# Altium footprint library Transistor.PcbLib: 13 footprints
Each footprint in its own frame and in the unit in brackets; x right, y up, seen from the top. Pads: shape width x height; smd on the part's side, far side on the other; paste and mask are expansions set on the pad; w line width, h text height; cw(c..) or ccw(c..) is an arc to the next point about the centre after c.
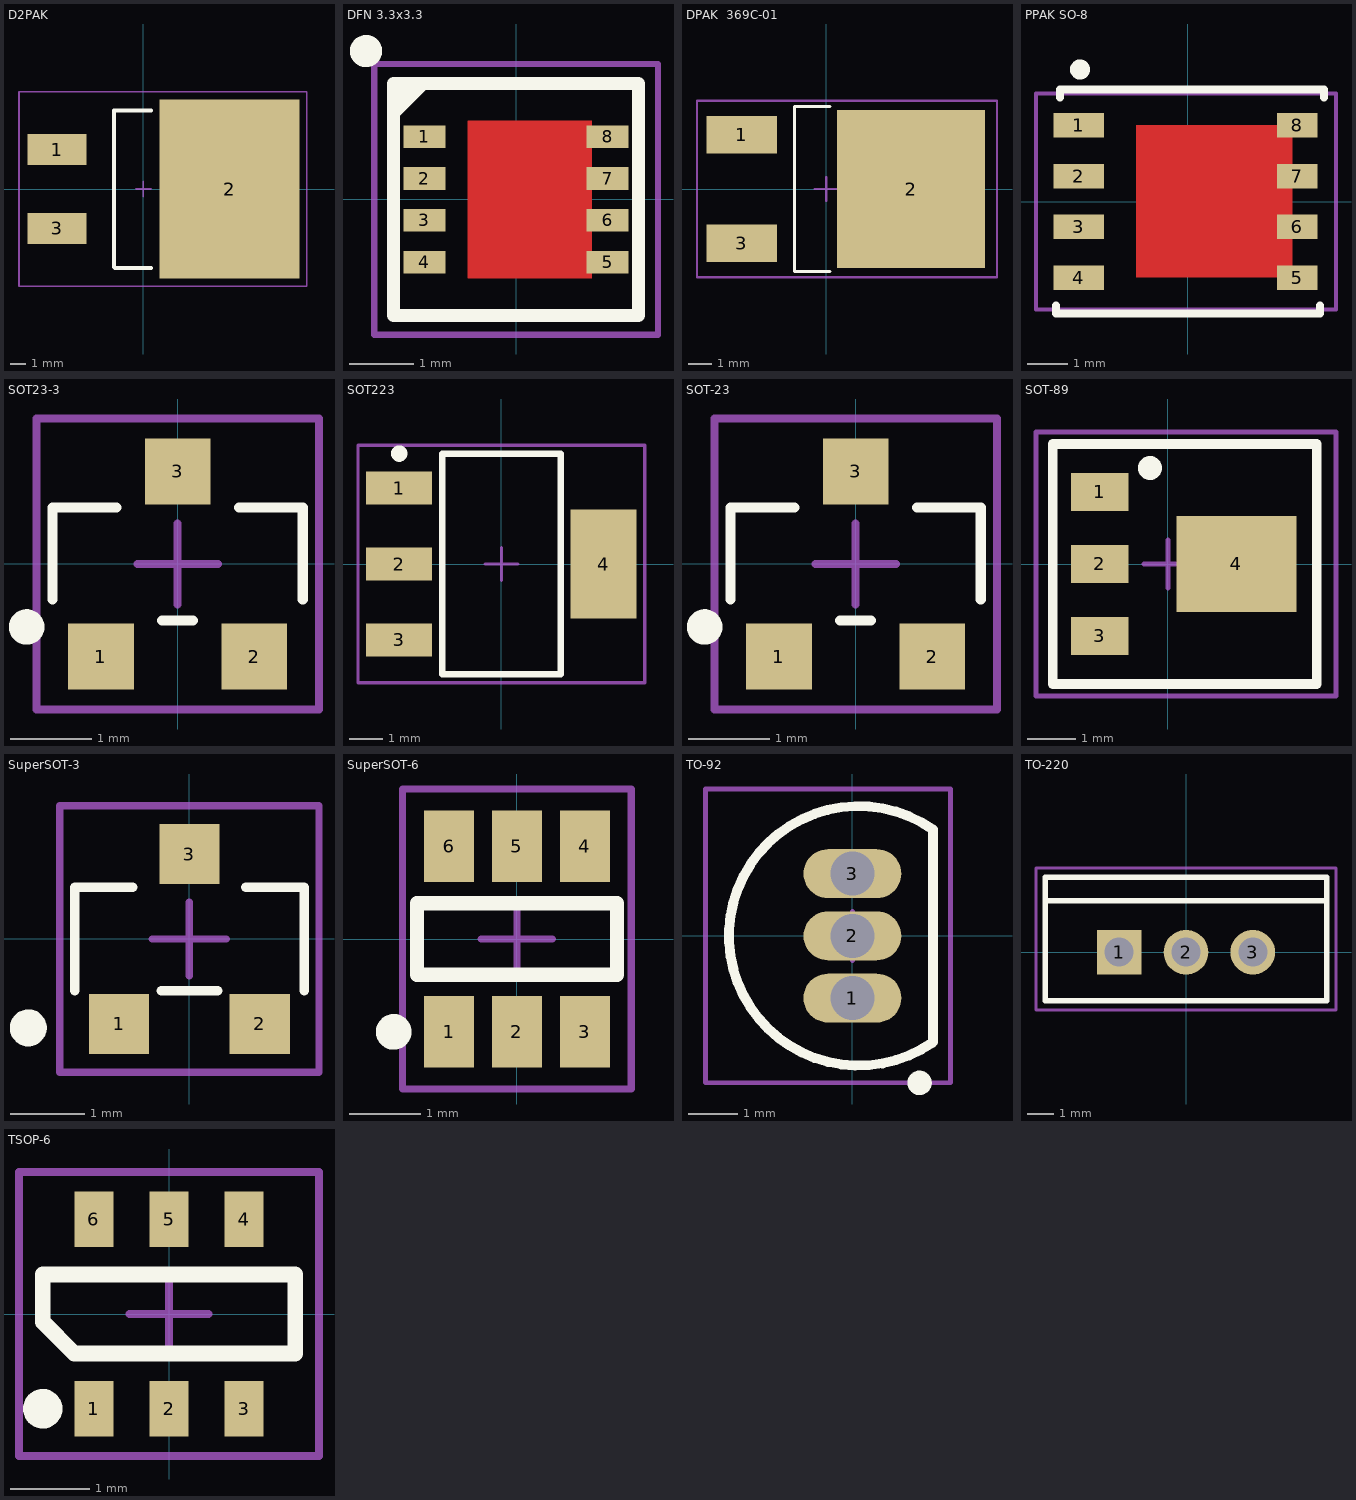
[diagram p0: the footprints below, top view; thin cyan lines are the x and y axes]

## D2PAK [mm]
pads (3):
  rect 3.8x2 smd paste+0: 1(-5.55,2.54) 3(-5.55,-2.54)
  rect 9x11.5 smd paste+0: 2(5.55,0)
Top Overlay:
  lines w0.254: 0.508,-5.08 -1.829,-5.08 -1.88,-5.029 -1.88,5.055 0.508,5.055
Mechanical 15:
  lines w0.1: -0.5,0 0.5,0 ; 0,-0.5 0,0.5 ; -8,-6.25 -8,6.25 10.5,6.25 10.5,-6.25 -8,-6.25
3D body "D2PAK.step": height 4.98, standoff -0.03, extent -6.971,-5.08 8.292,5.08

## DFN 3.3x3.3 [mm]
height 1.7
pads (8):
  rect 0.65x0.35 smd: 1(-1.42,0.975) 2(-1.42,0.325) 3(-1.42,-0.325) 4(-1.42,-0.975) 5(1.42,-0.975) 6(1.42,-0.325) 7(1.42,0.325) 8(1.42,0.975)
Top Layer:
  region: 1.18,-1.225 1.18,1.225 -0.75,1.225 -0.75,-1.225
Top Overlay:
  circle w0.25: c-2.325,2.3 r0.125
  region: -1.9,1.8 -1.3,1.8 -1.9,1.2
  lines w0.2: -1.9,-1.8 -1.9,1.8 1.9,1.8 1.9,-1.8 -1.9,-1.8
Top Solder:
  region: 1.28,-1.325 1.28,1.325 -0.82,1.325 -0.82,-1.325
Mechanical 15:
  lines w0.1: -0.5,0 0.5,0 ; 0,-0.5 0,0.5 ; -2.2,-2.1 2.2,-2.1 2.2,2.1 -2.2,2.1 -2.2,-2.1
3D body "DFN 3.3x3.3.STEP": height 0.75, standoff 0, extent -1.66,-1.65 1.66,1.65

## DPAK  369C-01 [mm]
pads (3):
  rect 3x1.6 smd paste+0: 1(-3.6,2.3) 3(-3.6,-2.3)
  rect 6.3x6.7 smd paste+0: 2(3.6,0)
Top Overlay:
  lines w0.127: 0.15,-3.5 -1.35,-3.5 -1.35,3.5 0.15,3.5
Mechanical 15:
  lines w0.1: -0.5,0 0.5,0 ; 0,-0.5 0,0.5 ; -5.5,-3.75 7.25,-3.75 7.25,3.75 -5.5,3.75 -5.5,-3.75
3D body "User Library-SO-369A-13.stp": height 2.4, standoff 0, extent -4.3,-3.3 5.8,3.3

## PPAK SO-8 [mm]
height 1
pads (8):
  rect 1.27x0.61 smd: 1(-2.732,1.905) 2(-2.732,0.635) 3(-2.732,-0.635) 4(-2.732,-1.905)
  rect 1.02x0.61 smd: 5(2.733,-1.905) 6(2.733,-0.635) 7(2.733,0.635) 8(2.733,1.905)
Top Layer:
  region: 2.61,-1.9 2.61,1.91 -1.3,1.91 -1.3,-1.9
Top Overlay:
  circle w0.25: c-2.7,3.3 r0.125
  lines w0.2: -3.3,-2.6 -3.3,-2.8 3.3,-2.8 3.3,-2.6 ; -3.2,2.6 -3.2,2.8 3.4,2.8 3.4,2.6
Top Solder:
  region: 2.7,-2.027 2.7,2.037 -1.427,2.037 -1.427,-2.027
Mechanical 15:
  lines w0.1: -0.5,-0.635 0.5,-0.635 ; 0,-1.135 0,-0.135 ; -3.8,-2.7 3.7,-2.7 3.7,2.7 -3.8,2.7 -3.8,-2.7
3D body "User Library-PowerPAK_SO8_single.STEP": height 1.11, standoff -0.01, extent -3.12,-2.625 3.12,2.625

## SOT23-3 [mil]
pads (3):
  rect 32x32 smd: 1(-37.4,-45.1) 2(37.4,-45.1) 3(0,45.1)
Top Overlay:
  circle w9.84: c-73.62,-30.71 r3.74
  lines w5: -61,-17.32 -61,27.6 -30,27.6 ; -7.48,-27.56 7.48,-27.56 ; 30,27.6 61,27.6 61,-17.32
Mechanical 15:
  lines w3.94: -19.68,0 19.68,0 ; 0,-19.69 0,19.68 ; -68.9,-70.87 -68.9,70.87 68.9,70.87 68.9,-70.87 -68.9,-70.87
3D body "SW3DPS-SOT-23-DEFAULT.step": height 42.91, standoff -0.39, extent -59.06,-49.21 59.06,49.21

## SOT223 [mm] "SOT223, 4-Leads, Body 6.5x3.5mm, Pitch 2.3mm, Lead Span 7mm, IPC Medium Density"
height 1.8
pads (4):
  rect 2x1 smd: 1(-3.1,2.3) 2(-3.1,0) 3(-3.1,-2.3)
  rect 2x3.3 smd: 4(3.1,0)
Top Overlay:
  circle w0.25: c-3.1,3.35 r0.125
  lines w0.2: -1.8,-3.35 1.8,-3.35 1.8,3.35 -1.8,3.35 -1.8,-3.35
Mechanical 13:
  lines w0.1: -1.85,-3.35 1.85,-3.35 1.85,3.35 -1.85,3.35 -1.85,-3.35
Mechanical 15:
  lines w0.1: -0.5,0 0.5,0 ; 0,-0.5 0,0.5 ; -4.35,-3.6 4.35,-3.6 4.35,3.6 -4.35,3.6 -4.35,-3.6
3D body "SOT-223.STEP": height 1.85, standoff -0.05, extent -3.674,-3.398 3.53,3.302

## SOT-23 [mil]
pads (3):
  rect 32x32 smd: 1(-37.4,-45.1) 2(37.4,-45.1) 3(0,45.1)
Top Overlay:
  circle w9.84: c-73.62,-30.71 r3.74
  lines w5: -61,-17.32 -61,27.6 -30,27.6 ; -7.48,-27.56 7.48,-27.56 ; 30,27.6 61,27.6 61,-17.32
Mechanical 15:
  lines w3.94: -19.68,0 19.68,0 ; 0,-19.69 0,19.68 ; -68.9,-70.87 68.9,-70.87 68.9,70.87 -68.9,70.87 -68.9,-70.87
3D body "SW3DPS-SOT-23-DEFAULT.step": height 42.91, standoff -0.39, extent -59.06,-49.21 59.06,49.21

## SOT-89 [mm]
height 1.5
pads (4):
  rect 1.2x0.8 smd: 1(-1.425,1.5) 2(-1.425,0) 3(-1.425,-1.5)
  rect 2.5x2 smd: 4(1.425,0)
Top Overlay:
  circle w0.25: c-0.375,2 r0.125
  lines w0.2: -2.4,-2.5 3.1,-2.5 3.1,2.5 -2.4,2.5 -2.4,-2.5
Mechanical 15:
  lines w0.1: -0.5,0 0.5,0 ; 0,-0.5 0,0.5 ; -2.75,-2.75 3.5,-2.75 3.5,2.75 -2.75,2.75 -2.75,-2.75
3D body "SOT-89.step": height 1.51, standoff 0, extent -1.9,-2.25 2.4,2.25

## SuperSOT-3 [mil]
height 44.09
pads (3):
  rect 32x32 smd: 1(-37.4,-45.1) 2(37.4,-45.1) 3(0,45.1)
Top Overlay:
  circle w9.84: c-85.63,-47.24 r4.92
  lines w5: -61,-27.5 -61,27.6 -30,27.6 ; -15,-27.5 15,-27.5 ; 30,27.6 61,27.6 61,-27.5
Mechanical 15:
  lines w3.94: -19.68,0 19.68,0 ; 0,-19.69 0,19.68 ; -68.9,-70.87 -68.9,70.87 68.9,70.87 68.9,-70.87 -68.9,-70.87
3D body "SW3DPS-SOT-23-DEFAULT.step": height 42.91, standoff -0.39, extent -59.06,-49.22 59.05,49.21

## SuperSOT-6 [mm]
height 1.1
pads (6):
  rect 0.7x1 smd: 1(-0.95,-1.3) 2(0,-1.3) 3(0.95,-1.3) 4(0.95,1.3) 5(0,1.3) 6(-0.95,1.3)
Top Overlay:
  circle w0.25: c-1.725,-1.3 r0.125
  lines w0.2: -1.4,-0.5 1.4,-0.5 1.4,0.5 -1.4,0.5 -1.4,-0.5
Mechanical 15:
  lines w0.1: -0.5,0 0.5,0 ; 0,-0.5 0,0.5 ; -1.6,-2.1 -1.6,2.1 1.6,2.1 1.6,-2.1 -1.6,-2.1
3D body "User Library-SSOT-6.STEP": height 1.05, standoff 0, extent -1.5,-1.5 1.5,1.5

## TO-92 [mm]
pads (3):
  oval 2x1 hole 0.9: 1(0,-1.27) 2(0,0) 3(0,1.27)
Top Overlay:
  circle w0.25: c1.371,-3.003 r0.125
  lines w0.2: 1.647,-2.171 cw(c0.127,0) 1.647,2.171 1.647,-2.171
Mechanical 15:
  lines w0.1: -0.5,0 0.5,0 ; 0,-0.5 0,0.5 ; -3,-3 -3,3 2,3 2,-3 -3,-3
3D body "TO-92.STEP": height 5.55, standoff -3.15, extent -2.413,-2.397 1.587,2.397

## TO-220 [mm] "TO, Thru-Hole, Vertical, Heatsink Mounted; 3 In-Line Leads; Pitch 2.54 mm"
height 22.9
pads (3):
  rect 1.7x1.7 hole 1.1: 1(-2.54,0)
  round 1.7 hole 1.1: 2(0,0) 3(2.54,0)
Top Overlay:
  lines w0.2: -5.35,1.95 5.35,1.95 ; -5.35,-1.85 5.35,-1.85 5.35,2.85 -5.35,2.85 -5.35,-1.85
Mechanical 15:
  lines w0.1: -0.5,0 0.5,0 ; 0,-0.5 0,0.5 ; -5.7,-2.2 5.7,-2.2 5.7,3.2 -5.7,3.2 -5.7,-2.2
3D body "User Library-TO220-A PCB.step": height 18.69, standoff -4.8, extent -4.95,-1.558 4.95,2.9

## TSOP-6 [mm]
height 1
pads (6):
  rect 0.5x0.7 smd: 1(-0.95,-1.2) 2(0,-1.2) 3(0.95,-1.2) 4(0.95,1.2) 5(0,1.2) 6(-0.95,1.2)
Top Overlay:
  circle w0.25: c-1.6,-1.2 r0.125
  lines w0.2: -1.6,-0.1 -1.6,0.5 1.6,0.5 1.6,-0.5 -1.2,-0.5 -1.6,-0.1
Mechanical 15:
  lines w0.1: -0.5,0 0.5,0 ; 0,-0.5 0,0.5 ; -1.9,-1.8 1.9,-1.8 1.9,1.8 -1.9,1.8 -1.9,-1.8
3D body "User Library-TSOP-6.step": height 1, standoff 0, extent -1.5,-1.35 1.5,1.35